# Altium schematic symbol library LT1715.SchLib: 1 symbol
Pins are listed as number, name and electrical type; pins without a type are passive.

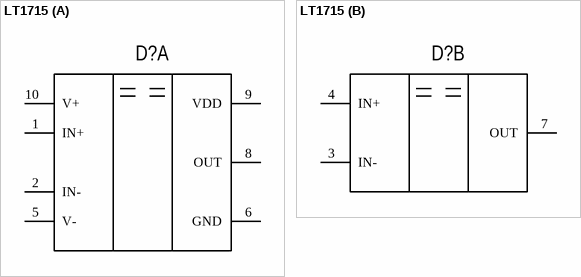
[diagram p0: symbol LT1715]

## LT1715
designator D?  (value not drawn)
part A pins: 1 IN+, 2 IN-, 5 V- (power), 6 GND (power), 8 OUT, 9 VDD (power), 10 V+ (power)
part B pins: 3 IN-, 4 IN+, 7 OUT
1 alternate drawing of the same symbol